# Altium schematic symbol library 691 243 310 0xx.SchLib: 7 symbols
Pins are listed as number, name and electrical type; pins without a type are passive.

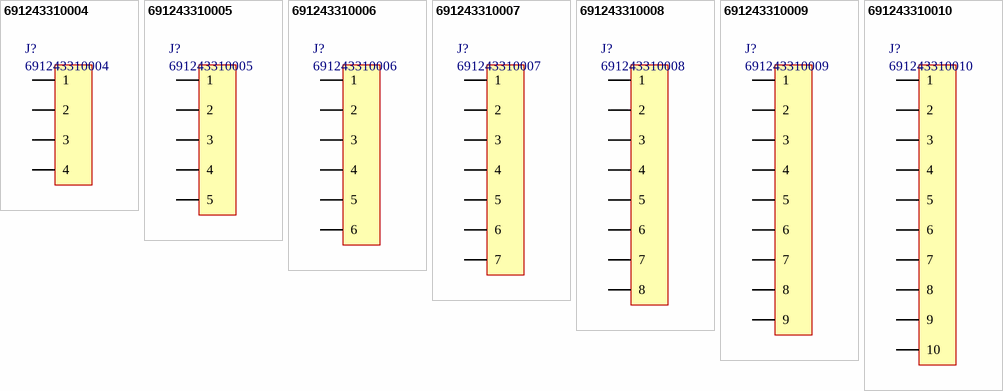
[diagram p0: symbols 691243310004 to 691243310010]

## 691243310004
designator J?
Horizontal Cable Entry with Rising Cage Clamp, Serie 2433 - 3.81mm; Manufacturer: Wurth Elektronik; ComponentLink1 Description: Manufacturer; ComponentLink2 Description: Datasheet; NoPins: 4; ComponentLink1 URL: http://www.we-online.com; ComponentLink2 URL: http://katalog.we-online.de/em/datasheet/6912433100xx.pdf; Created By: Baojun Chen; Created Date: 27.Aug.2015; PartNo: 691243310004
footprint 691243310004 (Serie 2433 - 3.81 mm _ 4 pins)
pins: 1, 2, 3, 4

## 691243310005
designator J?
Horizontal Cable Entry with Rising Cage Clamp, Serie 2433 - 3.81mm; Manufacturer: Wurth Elektronik; ComponentLink1 Description: Manufacturer; ComponentLink2 Description: Datasheet; NoPins: 5; ComponentLink1 URL: http://www.we-online.com; ComponentLink2 URL: http://katalog.we-online.de/em/datasheet/6912433100xx.pdf; Created By: Baojun Chen; Created Date: 27.Aug.2015; PartNo: 691243310005
footprint 691243310005 (Serie 2433 - 3.81 mm _ 5 pins)
pins: 1, 2, 3, 4, 5

## 691243310006
designator J?
Horizontal Cable Entry with Rising Cage Clamp, Serie 2433 - 3.81mm; Manufacturer: Wurth Elektronik; ComponentLink1 Description: Manufacturer; ComponentLink2 Description: Datasheet; NoPins: 6; ComponentLink1 URL: http://www.we-online.com; ComponentLink2 URL: http://katalog.we-online.de/em/datasheet/6912433100xx.pdf; Created By: Baojun Chen; Created Date: 27.Aug.2015; PartNo: 691243310006
footprint 691243310006 (Serie 2433 - 3.81 mm _ 6 pins)
pins: 1, 2, 3, 4, 5, 6

## 691243310007
designator J?
Horizontal Cable Entry with Rising Cage Clamp, Serie 2433 - 3.81mm; Manufacturer: Wurth Elektronik; ComponentLink1 Description: Manufacturer; ComponentLink2 Description: Datasheet; NoPins: 7; ComponentLink1 URL: http://www.we-online.com; ComponentLink2 URL: http://katalog.we-online.de/em/datasheet/6912433100xx.pdf; Created By: Baojun Chen; Created Date: 27.Aug.2015; PartNo: 691243310007
footprint 691243310007 (Serie 2433 - 3.81 mm _ 7 pins)
pins: 1, 2, 3, 4, 5, 6, 7

## 691243310008
designator J?
Horizontal Cable Entry with Rising Cage Clamp, Serie 2433 - 3.81mm; Manufacturer: Wurth Elektronik; ComponentLink1 Description: Manufacturer; ComponentLink2 Description: Datasheet; NoPins: 8; ComponentLink1 URL: http://www.we-online.com; ComponentLink2 URL: http://katalog.we-online.de/em/datasheet/6912433100xx.pdf; Created By: Baojun Chen; Created Date: 27.Aug.2015; PartNo: 691243310008
footprint 691243310008 (Serie 2433 - 3.81 mm _ 8 pins)
pins: 1, 2, 3, 4, 5, 6, 7, 8

## 691243310009
designator J?
Horizontal Cable Entry with Rising Cage Clamp, Serie 2433 - 3.81mm; Manufacturer: Wurth Elektronik; ComponentLink1 Description: Manufacturer; ComponentLink2 Description: Datasheet; NoPins: 9; ComponentLink1 URL: http://www.we-online.com; ComponentLink2 URL: http://katalog.we-online.de/em/datasheet/6912433100xx.pdf; Created By: Baojun Chen; Created Date: 27.Aug.2015; PartNo: 691243310009
footprint 691243310009 (Serie 2433 - 3.81 mm _ 9 pins)
pins: 1, 2, 3, 4, 5, 6, 7, 8, 9

## 691243310010
designator J?
Horizontal Cable Entry with Rising Cage Clamp, Serie 2433 - 3.81mm; Manufacturer: Wurth Elektronik; ComponentLink1 Description: Manufacturer; ComponentLink2 Description: Datasheet; NoPins: 10; ComponentLink1 URL: http://www.we-online.com; ComponentLink2 URL: http://katalog.we-online.de/em/datasheet/6912433100xx.pdf; Created By: Baojun Chen; Created Date: 27.Aug.2015; PartNo: 691243310010
footprint 691243310010 (Serie 2433 - 3.81 mm _ 10 pins)
pins: 1, 2, 3, 4, 5, 6, 7, 8, 9, 10